# EAGLE library part FT232RQ (library ftdi)
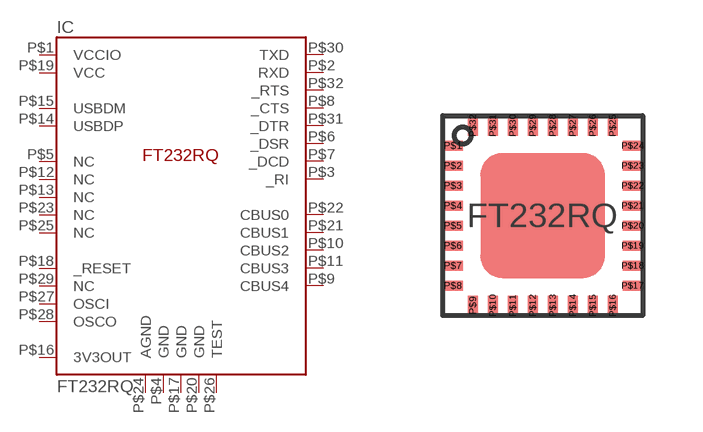
[diagram p5: symbol with the pads of QFN-32; footprint QFN-32]

Designator prefix IC

## FT232RQ  [QFN-32]
P$1  VCCIO  pwr
P$2  RXD  in
P$3  _RI  in
P$4  GND  pwr
P$5  NC  nc
P$6  _DSR  in
P$7  _DCD  in
P$8  _CTS  in
P$9  CBUS4
P$10  CBUS2
P$11  CBUS3
P$12  NC  nc
P$13  NC  nc
P$14  USBDP
P$15  USBDM
P$16  3V3OUT  out
P$17  GND  pwr
P$18  _RESET  in
P$19  VCC  pwr
P$20  GND  pwr
P$21  CBUS1
P$22  CBUS0
P$23  NC  nc
P$24  AGND  pwr
P$25  NC  nc
P$26  TEST
P$27  OSCI  in
P$28  OSCO  out
P$29  NC  nc
P$30  TXD  out
P$31  _DTR  in
P$32  _RTS  out

## Footprint QFN-32 (pad centres in mm)
QFN-32 package (5mm x 5mm)
smd 0.5 x 0.25: P$1 0.25,-0.75; P$2 0.25,-1.25; P$3 0.25,-1.75; P$4 0.25,-2.25; P$5 0.25,-2.75; P$6 0.25,-3.25; P$7 0.25,-3.75; P$8 0.25,-4.25; P$17 4.75,-4.25; P$18 4.75,-3.75; P$19 4.75,-3.25; P$20 4.75,-2.75; P$21 4.75,-2.25; P$22 4.75,-1.75; P$23 4.75,-1.25; P$24 4.75,-0.75
smd 0.25 x 0.5: P$9 0.75,-4.75; P$10 1.25,-4.75; P$11 1.75,-4.75; P$12 2.25,-4.75; P$13 2.75,-4.75; P$14 3.25,-4.75; P$15 3.75,-4.75; P$16 4.25,-4.75; P$25 4.25,-0.25; P$26 3.75,-0.25; P$27 3.25,-0.25; P$28 2.75,-0.25; P$29 2.25,-0.25; P$30 1.75,-0.25; P$31 1.25,-0.25; P$32 0.75,-0.25